# EAGLE library part TM1637 (library misc)
LED Display Drivers
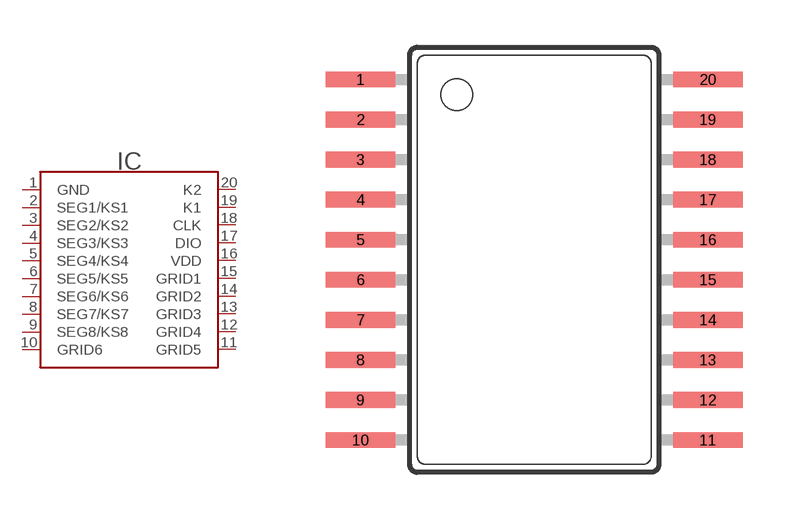
[diagram p84: symbol with the pads of SOP-20; footprint SOP-20]

Designator prefix IC

## TM1637-SOP-20 (LCSC#: C2962580; MANF: TM(Shenzhen Titan Micro Elec); MANF#: TM1637)  [SOP-20]
1  GND
2  SEG1/KS1
3  SEG2/KS2
4  SEG3/KS3
5  SEG4/KS4
6  SEG5/KS5
7  SEG6/KS6
8  SEG7/KS7
9  SEG8/KS8
10  GRID6
11  GRID5
12  GRID4
13  GRID3
14  GRID2
15  GRID1
16  VDD
17  DIO
18  CLK
19  K1
20  K2

## Footprint SOP-20 (pad centres in mm)
Small Outline Package
smd 2.2 x 0.5: 1 -5.5,5.715; 2 -5.5,4.445; 3 -5.5,3.175; 4 -5.5,1.905; 5 -5.5,0.635; 6 -5.5,-0.635; 7 -5.5,-1.905; 8 -5.5,-3.175; 9 -5.5,-4.445; 10 -5.5,-5.715; 11 5.5,-5.715; 12 5.5,-4.445; 13 5.5,-3.175; 14 5.5,-1.905; 15 5.5,-0.635; 16 5.5,0.635; 17 5.5,1.905; 18 5.5,3.175; 19 5.5,4.445; 20 5.5,5.715